# Altium footprint library THT Resistor.PcbLib: 1 footprints
Each footprint in its own frame and in the unit in brackets; x right, y up, seen from the top. Pads: shape width x height; smd on the part's side, far side on the other; paste and mask are expansions set on the pad; w line width, h text height; cw(c..) or ccw(c..) is an arc to the next point about the centre after c.
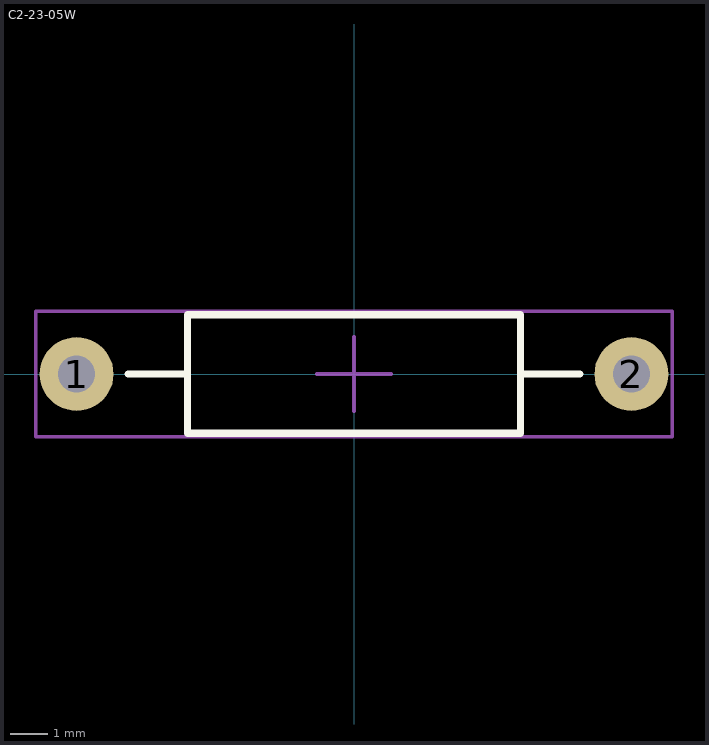
[diagram p0: the footprint, top view; thin cyan lines are the x and y axes]

## C2-23-05W [mm] "C2-23 0,5 Вт L=9,0 D=3,2 d=0,60 U=350В"
height 3.2
pads (2):
  round 2 hole 1: 1(-7.5,0) 2(7.5,0)
Top Overlay:
  lines w0.2: -6.1,0 -4.5,0 ; 4.5,0 6.1,0 ; -4.5,-1.6 4.5,-1.6 4.5,1.6 -4.5,1.6 -4.5,-1.6
Mechanical 15:
  lines w0.1: -1,0 1,0 ; 0,-1 0,1 ; -8.6,-1.7 -8.6,1.7 8.6,1.7 8.6,-1.7 -8.6,-1.7
  text "'.Designator'" at -3.6,-1.318 h1.5